# EAGLE library part MAX281 (library Radicon)
MAX281 5th Order, Zero Error, Bessel, Switched Capacitor Lowpass Filter
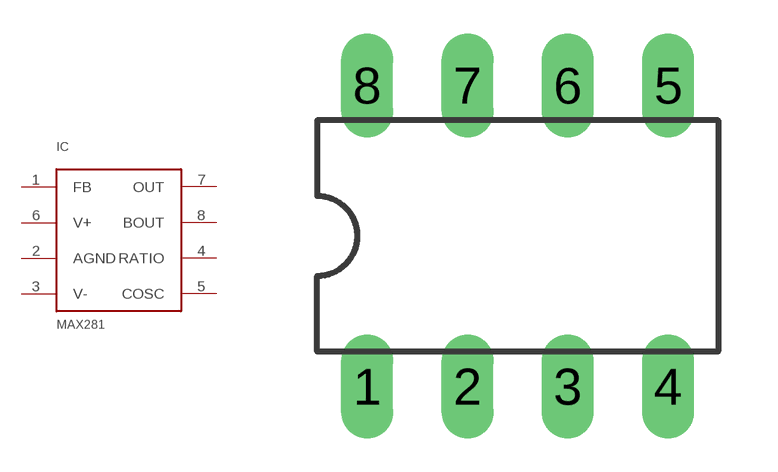
[diagram p28: symbol with the pads of DIL08; footprint DIL08]

Designator prefix IC

## MAX281  [DIL08]
1  FB
2  AGND
3  V-
4  RATIO
5  COSC
6  V+
7  OUT
8  BOUT

## Footprint DIL08 (pad centres in mm)
Dual In Line Package
drill 0.813 long: 1 -3.81,-3.81; 2 -1.27,-3.81; 3 1.27,-3.81; 4 3.81,-3.81; 5 3.81,3.81; 6 1.27,3.81; 7 -1.27,3.81; 8 -3.81,3.81